# Altium footprint library Card_Edge1.PcbLib: 1 footprints
Each footprint in its own frame and in the unit in brackets; x right, y up, seen from the top. Pads: shape width x height; smd on the part's side, far side on the other; paste and mask are expansions set on the pad; w line width, h text height; cw(c..) or ccw(c..) is an arc to the next point about the centre after c.
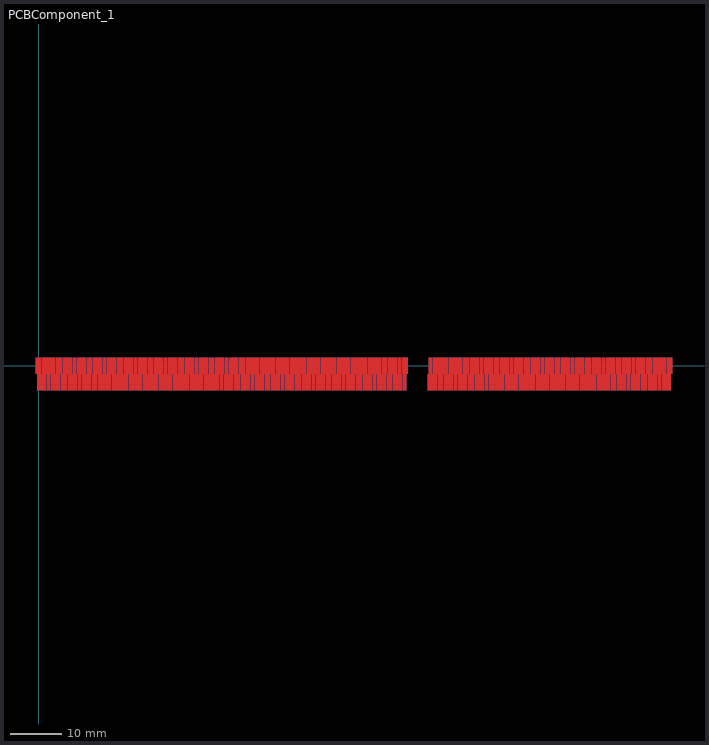
[diagram p0: the footprint, top view; thin cyan lines are the x and y axes]

## PCBComponent_1 [mil]
pads (242):
  round 1 smd mask+0: 1(0,0) 2(39.17,-129.92) 3(78.35,0) 4(117.52,-129.92) 5(156.69,0) 6(195.87,-129.92) 7(235.04,0) 8(274.21,-129.92) 9(313.39,0) 10(352.56,-129.92) 11(391.73,0) 12(430.91,-129.92) 13(470.08,0) 14(509.25,-129.92) 15(548.43,0) 16(587.6,-129.92) 17(626.77,0) 18(665.94,-129.92) 19(705.12,0) 20(744.29,-129.92) 21(783.46,0) 22(822.64,-129.92) 23(861.81,0) 24(900.98,-129.92) 25(940.16,0) 26(979.33,-129.92) 27(1018.5,0) 28(1057.68,-129.92) 29(1096.85,0) 30(1136.02,-129.92) 31(1175.2,0) 32(1214.37,-129.92) 33(1253.54,0) 34(1292.72,-129.92) 35(1331.89,0) 36(1371.06,-129.92) 37(1410.24,0) 38(1449.41,-129.92) 39(1488.58,0) 40(1527.76,-129.92) 41(1566.93,0) 42(1606.1,-129.92) 43(1645.28,0) 44(1684.45,-129.92) 45(1723.62,0) 46(1762.8,-129.92) 47(1801.97,0) 48(1841.14,-129.92) 49(1880.32,0) 50(1919.49,-129.92) 51(1958.66,0) 52(1997.83,-129.92) 53(2037.01,0) 54(2076.18,-129.92) 55(2115.35,0) 56(2154.53,-129.92) 57(2193.7,0) 58(2232.87,-129.92) 59(2272.05,0) 60(2311.22,-129.92) 61(2350.39,0) 62(2389.57,-129.92) 63(2428.74,0) 64(2467.91,-129.92) 65(2507.09,0) 66(2546.26,-129.92) 67(2585.43,0) 68(2624.61,-129.92) 69(2663.78,0) 70(2702.95,-129.92) 71(2742.13,0) 72(2781.3,-129.92) 73(2820.47,0) 74(3017.32,-129.92) 75(3056.5,0) 76(3095.67,-129.92) 77(3134.84,0) 78(3174.02,-129.92) 79(3213.19,0) 80(3252.36,-129.92) 81(3291.54,0) 82(3330.71,-129.92) 83(3369.88,0) 84(3409.06,-129.92) 85(3448.23,0) 86(3487.4,-129.92) 87(3526.57,0) 88(3565.75,-129.92) 89(3604.92,0) 90(3644.09,-129.92) 91(3683.27,0) 92(3722.44,-129.92) 93(3761.61,0) 94(3800.79,-129.92) 95(3839.96,0) 96(3879.13,-129.92) 97(3918.31,0) 98(3957.48,-129.92) 99(3996.65,0) 100(4035.83,-129.92) 101(4075,0) 102(4114.17,-129.92) 103(4153.35,0) 104(4192.52,-129.92) 105(4231.69,0) 106(4270.87,-129.92) 107(4310.04,0) 108(4349.21,-129.92) 109(4388.39,0) 110(4427.56,-129.92) 111(4466.73,0) 112(4505.91,-129.92) 113(4545.08,0) 114(4584.25,-129.92) 115(4623.43,0) 116(4662.6,-129.92) 117(4701.77,0) 118(4740.94,-129.92) 119(4780.12,0) 120(4819.29,-129.92) 121(4858.46,0)
  round 1 smd far side mask+0: 122(0,0) 123(39.17,-129.92) 124(78.35,0) 125(117.52,-129.92) 126(156.69,0) 127(195.87,-129.92) 128(235.04,0) 129(274.21,-129.92) 130(313.39,0) 131(352.56,-129.92) 132(391.73,0) 133(430.91,-129.92) 134(470.08,0) 135(509.25,-129.92) 136(548.43,0) 137(587.6,-129.92) 138(626.77,0) 139(665.94,-129.92) 140(705.12,0) 141(744.29,-129.92) 142(783.46,0) 143(822.64,-129.92) 144(861.81,0) 145(900.98,-129.92) 146(940.16,0) 147(979.33,-129.92) 148(1018.5,0) 149(1057.68,-129.92) 150(1096.85,0) 151(1136.02,-129.92) 152(1175.2,0) 153(1214.37,-129.92) 154(1253.54,0) 155(1292.72,-129.92) 156(1331.89,0) 157(1371.06,-129.92) 158(1410.24,0) 159(1449.41,-129.92) 160(1488.58,0) 161(1527.76,-129.92) 162(1566.93,0) 163(1606.1,-129.92) 164(1645.28,0) 165(1684.45,-129.92) 166(1723.62,0) 167(1762.8,-129.92) 168(1801.97,0) 169(1841.14,-129.92) 170(1880.32,0) 171(1919.49,-129.92) 172(1958.66,0) 173(1997.83,-129.92) 174(2037.01,0) 175(2076.18,-129.92) 176(2115.35,0) 177(2154.53,-129.92) 178(2193.7,0) 179(2232.87,-129.92) 180(2272.05,0) 181(2311.22,-129.92) 182(2350.39,0) 183(2389.57,-129.92) 184(2428.74,0) 185(2467.91,-129.92) 186(2507.09,0) 187(2546.26,-129.92) 188(2585.43,0) 189(2624.61,-129.92) 190(2663.78,0) 191(2702.95,-129.92) 192(2742.13,0) 193(2781.3,-129.92) 194(2820.47,0) 195(3017.32,-129.92) 196(3056.5,0) 198(3134.84,0) 200(3213.19,0) 202(3291.54,0) 204(3369.88,0) 206(3448.23,0) 208(3526.57,0) 210(3604.92,0) 212(3683.27,0) 214(3761.61,0) 216(3839.96,0) 218(3918.31,0) 220(3996.65,0) 222(4075,0) 224(4153.35,0) 226(4231.69,0) 228(4310.04,0) 230(4388.39,0) 232(4466.73,0) 234(4545.08,0) 236(4623.43,0) 238(4701.77,0) 240(4780.12,0) 242(4858.46,0) 257(3095.67,-129.92) 259(3174.02,-129.92) 261(3252.36,-129.92) 263(3330.71,-129.92) 265(3409.06,-129.92) 267(3487.4,-129.92) 269(3565.75,-129.92) 271(3644.09,-129.92) 273(3722.44,-129.92) 275(3800.79,-129.92) 277(3879.13,-129.92) 279(3957.48,-129.92) 281(4035.83,-129.92) 283(4114.17,-129.92) 285(4192.52,-129.92) 287(4270.87,-129.92) 289(4349.21,-129.92) 291(4427.56,-129.92) 293(4505.91,-129.92) 295(4584.25,-129.92) 297(4662.6,-129.92) 299(4740.94,-129.92) 301(4819.29,-129.92)
Top Layer:
  region: 99.8,62.01 99.8,-62.01 90.16,-62.01 90.16,-191.93 66.54,-191.93 66.54,-62.01 56.89,-62.01 56.89,62.01
  region: 178.15,62.01 178.15,-62.01 168.5,-62.01 168.5,-191.93 144.88,-191.93 144.88,-62.01 135.24,-62.01 135.24,62.01
  region: 256.5,62.01 256.5,-62.01 246.85,-62.01 246.85,-191.93 223.23,-191.93 223.23,-62.01 213.58,-62.01 213.58,62.01
  region: 334.84,62.01 334.84,-62.01 325.2,-62.01 325.2,-191.93 301.57,-191.93 301.57,-62.01 291.93,-62.01 291.93,62.01
  region: 413.19,62.01 413.19,-62.01 403.54,-62.01 403.54,-191.93 379.92,-191.93 379.92,-62.01 370.28,-62.01 370.28,62.01
  region: 491.54,62.01 491.54,-62.01 481.89,-62.01 481.89,-191.93 458.27,-191.93 458.27,-62.01 448.62,-62.01 448.62,62.01
  region: 569.88,62.01 569.88,-62.01 560.24,-62.01 560.24,-191.93 536.61,-191.93 536.61,-62.01 526.97,-62.01 526.97,62.01
  region: 648.23,62.01 648.23,-62.01 638.58,-62.01 638.58,-191.93 614.96,-191.93 614.96,-62.01 605.31,-62.01 605.31,62.01
  region: 726.57,62.01 726.57,-62.01 716.93,-62.01 716.93,-191.93 693.31,-191.93 693.31,-62.01 683.66,-62.01 683.66,62.01
  region: 804.92,62.01 804.92,-62.01 795.28,-62.01 795.28,-191.93 771.65,-191.93 771.65,-62.01 762.01,-62.01 762.01,62.01
  region: 883.27,62.01 883.27,-62.01 873.62,-62.01 873.62,-191.93 850,-191.93 850,-62.01 840.35,-62.01 840.35,62.01
  region: 961.61,62.01 961.61,-62.01 951.97,-62.01 951.97,-191.93 928.35,-191.93 928.35,-62.01 918.7,-62.01 918.7,62.01
  region: 1039.96,62.01 1039.96,-62.01 1030.31,-62.01 1030.31,-191.93 1006.69,-191.93 1006.69,-62.01 997.05,-62.01 997.05,62.01
  region: 1118.31,62.01 1118.31,-62.01 1108.66,-62.01 1108.66,-191.93 1085.04,-191.93 1085.04,-62.01 1075.39,-62.01 1075.39,62.01
  region: 1196.65,62.01 1196.65,-62.01 1187.01,-62.01 1187.01,-191.93 1163.39,-191.93 1163.39,-62.01 1153.74,-62.01 1153.74,62.01
  region: 1275,62.01 1275,-62.01 1265.35,-62.01 1265.35,-191.93 1241.73,-191.93 1241.73,-62.01 1232.09,-62.01 1232.09,62.01
  region: 1353.35,62.01 1353.35,-62.01 1343.7,-62.01 1343.7,-191.93 1320.08,-191.93 1320.08,-62.01 1310.43,-62.01 1310.43,62.01
  region: 1431.69,62.01 1431.69,-62.01 1422.05,-62.01 1422.05,-191.93 1398.43,-191.93 1398.43,-62.01 1388.78,-62.01 1388.78,62.01
  region: 1510.04,62.01 1510.04,-62.01 1500.39,-62.01 1500.39,-191.93 1476.77,-191.93 1476.77,-62.01 1467.13,-62.01 1467.13,62.01
  region: 1588.39,62.01 1588.39,-62.01 1578.74,-62.01 1578.74,-191.93 1555.12,-191.93 1555.12,-62.01 1545.47,-62.01 1545.47,62.01
  region: 1666.73,62.01 1666.73,-62.01 1657.09,-62.01 1657.09,-191.93 1633.46,-191.93 1633.46,-62.01 1623.82,-62.01 1623.82,62.01
  region: 1745.08,62.01 1745.08,-62.01 1735.43,-62.01 1735.43,-191.93 1711.81,-191.93 1711.81,-62.01 1702.17,-62.01 1702.17,62.01
  region: 1823.43,62.01 1823.43,-62.01 1813.78,-62.01 1813.78,-191.93 1790.16,-191.93 1790.16,-62.01 1780.51,-62.01 1780.51,62.01
  region: 1901.77,62.01 1901.77,-62.01 1892.13,-62.01 1892.13,-191.93 1868.5,-191.93 1868.5,-62.01 1858.86,-62.01 1858.86,62.01
  region: 1980.12,62.01 1980.12,-62.01 1970.47,-62.01 1970.47,-191.93 1946.85,-191.93 1946.85,-62.01 1937.2,-62.01 1937.2,62.01
  region: 2058.46,62.01 2058.46,-62.01 2048.82,-62.01 2048.82,-191.93 2025.2,-191.93 2025.2,-62.01 2015.55,-62.01 2015.55,62.01
  region: 2136.81,62.01 2136.81,-62.01 2127.17,-62.01 2127.17,-191.93 2103.54,-191.93 2103.54,-62.01 2093.9,-62.01 2093.9,62.01
  region: 2215.16,62.01 2215.16,-62.01 2205.51,-62.01 2205.51,-191.93 2181.89,-191.93 2181.89,-62.01 2172.24,-62.01 2172.24,62.01
  region: 2293.5,62.01 2293.5,-62.01 2283.86,-62.01 2283.86,-191.93 2260.24,-191.93 2260.24,-62.01 2250.59,-62.01 2250.59,62.01
  region: 2371.85,62.01 2371.85,-62.01 2362.2,-62.01 2362.2,-191.93 2338.58,-191.93 2338.58,-62.01 2328.94,-62.01 2328.94,62.01
  region: 2450.2,62.01 2450.2,-62.01 2440.55,-62.01 2440.55,-191.93 2416.93,-191.93 2416.93,-62.01 2407.28,-62.01 2407.28,62.01
  region: 2528.54,62.01 2528.54,-62.01 2518.9,-62.01 2518.9,-191.93 2495.28,-191.93 2495.28,-62.01 2485.63,-62.01 2485.63,62.01
  region: 2606.89,62.01 2606.89,-62.01 2597.24,-62.01 2597.24,-191.93 2573.62,-191.93 2573.62,-62.01 2563.98,-62.01 2563.98,62.01
  region: 2685.24,62.01 2685.24,-62.01 2675.59,-62.01 2675.59,-191.93 2651.97,-191.93 2651.97,-62.01 2642.32,-62.01 2642.32,62.01
  region: 2763.58,62.01 2763.58,-62.01 2753.94,-62.01 2753.94,-191.93 2730.32,-191.93 2730.32,-62.01 2720.67,-62.01 2720.67,62.01
  region: 96.06,-191.93 96.06,-67.91 105.71,-67.91 105.71,62.01 129.33,62.01 129.33,-67.91 138.98,-67.91 138.98,-191.93
  region: 174.41,-191.93 174.41,-67.91 184.06,-67.91 184.06,62.01 207.68,62.01 207.68,-67.91 217.32,-67.91 217.32,-191.93
  region: 252.76,-191.93 252.76,-67.91 262.4,-67.91 262.4,62.01 286.02,62.01 286.02,-67.91 295.67,-67.91 295.67,-191.93
  region: 331.1,-191.93 331.1,-67.91 340.75,-67.91 340.75,62.01 364.37,62.01 364.37,-67.91 374.02,-67.91 374.02,-191.93
  region: 409.45,-191.93 409.45,-67.91 419.09,-67.91 419.09,62.01 442.72,62.01 442.72,-67.91 452.36,-67.91 452.36,-191.93
  region: 487.8,-191.93 487.8,-67.91 497.44,-67.91 497.44,62.01 521.06,62.01 521.06,-67.91 530.71,-67.91 530.71,-191.93
  region: 566.14,-191.93 566.14,-67.91 575.79,-67.91 575.79,62.01 599.41,62.01 599.41,-67.91 609.06,-67.91 609.06,-191.93
  region: 644.49,-191.93 644.49,-67.91 654.13,-67.91 654.13,62.01 677.76,62.01 677.76,-67.91 687.4,-67.91 687.4,-191.93
  region: 722.83,-191.93 722.83,-67.91 732.48,-67.91 732.48,62.01 756.1,62.01 756.1,-67.91 765.75,-67.91 765.75,-191.93
  region: 801.18,-191.93 801.18,-67.91 810.83,-67.91 810.83,62.01 834.45,62.01 834.45,-67.91 844.09,-67.91 844.09,-191.93
  region: 879.53,-191.93 879.53,-67.91 889.17,-67.91 889.17,62.01 912.8,62.01 912.8,-67.91 922.44,-67.91 922.44,-191.93
  region: 957.87,-191.93 957.87,-67.91 967.52,-67.91 967.52,62.01 991.14,62.01 991.14,-67.91 1000.79,-67.91 1000.79,-191.93
  region: 1036.22,-191.93 1036.22,-67.91 1045.87,-67.91 1045.87,62.01 1069.49,62.01 1069.49,-67.91 1079.13,-67.91 1079.13,-191.93
  region: 1114.57,-191.93 1114.57,-67.91 1124.21,-67.91 1124.21,62.01 1147.83,62.01 1147.83,-67.91 1157.48,-67.91 1157.48,-191.93
  region: 1192.91,-191.93 1192.91,-67.91 1202.56,-67.91 1202.56,62.01 1226.18,62.01 1226.18,-67.91 1235.83,-67.91 1235.83,-191.93
  region: 1271.26,-191.93 1271.26,-67.91 1280.91,-67.91 1280.91,62.01 1304.53,62.01 1304.53,-67.91 1314.17,-67.91 1314.17,-191.93
  region: 1349.61,-191.93 1349.61,-67.91 1359.25,-67.91 1359.25,62.01 1382.87,62.01 1382.87,-67.91 1392.52,-67.91 1392.52,-191.93
  region: 1427.95,-191.93 1427.95,-67.91 1437.6,-67.91 1437.6,62.01 1461.22,62.01 1461.22,-67.91 1470.87,-67.91 1470.87,-191.93
  region: 1506.3,-191.93 1506.3,-67.91 1515.94,-67.91 1515.94,62.01 1539.57,62.01 1539.57,-67.91 1549.21,-67.91 1549.21,-191.93
  region: 1584.65,-191.93 1584.65,-67.91 1594.29,-67.91 1594.29,62.01 1617.91,62.01 1617.91,-67.91 1627.56,-67.91 1627.56,-191.93
  region: 1662.99,-191.93 1662.99,-67.91 1672.64,-67.91 1672.64,62.01 1696.26,62.01 1696.26,-67.91 1705.91,-67.91 1705.91,-191.93
  region: 1741.34,-191.93 1741.34,-67.91 1750.98,-67.91 1750.98,62.01 1774.61,62.01 1774.61,-67.91 1784.25,-67.91 1784.25,-191.93
  region: 1819.69,-191.93 1819.69,-67.91 1829.33,-67.91 1829.33,62.01 1852.95,62.01 1852.95,-67.91 1862.6,-67.91 1862.6,-191.93
  region: 1898.03,-191.93 1898.03,-67.91 1907.68,-67.91 1907.68,62.01 1931.3,62.01 1931.3,-67.91 1940.94,-67.91 1940.94,-191.93
  region: 1976.38,-191.93 1976.38,-67.91 1986.02,-67.91 1986.02,62.01 2009.65,62.01 2009.65,-67.91 2019.29,-67.91 2019.29,-191.93
  region: 2054.72,-191.93 2054.72,-67.91 2064.37,-67.91 2064.37,62.01 2087.99,62.01 2087.99,-67.91 2097.64,-67.91 2097.64,-191.93
  region: 2133.07,-191.93 2133.07,-67.91 2142.72,-67.91 2142.72,62.01 2166.34,62.01 2166.34,-67.91 2175.98,-67.91 2175.98,-191.93
  region: 2211.42,-191.93 2211.42,-67.91 2221.06,-67.91 2221.06,62.01 2244.68,62.01 2244.68,-67.91 2254.33,-67.91 2254.33,-191.93
  region: 2289.76,-191.93 2289.76,-67.91 2299.41,-67.91 2299.41,62.01 2323.03,62.01 2323.03,-67.91 2332.68,-67.91 2332.68,-191.93
  region: 2368.11,-191.93 2368.11,-67.91 2377.76,-67.91 2377.76,62.01 2401.38,62.01 2401.38,-67.91 2411.02,-67.91 2411.02,-191.93
  region: 2446.46,-191.93 2446.46,-67.91 2456.1,-67.91 2456.1,62.01 2479.72,62.01 2479.72,-67.91 2489.37,-67.91 2489.37,-191.93
  region: 2524.8,-191.93 2524.8,-67.91 2534.45,-67.91 2534.45,62.01 2558.07,62.01 2558.07,-67.91 2567.72,-67.91 2567.72,-191.93
  region: 2603.15,-191.93 2603.15,-67.91 2612.8,-67.91 2612.8,62.01 2636.42,62.01 2636.42,-67.91 2646.06,-67.91 2646.06,-191.93
  region: 2681.5,-191.93 2681.5,-67.91 2691.14,-67.91 2691.14,62.01 2714.76,62.01 2714.76,-67.91 2724.41,-67.91 2724.41,-191.93
  region: 3156.3,62.01 3156.3,-62.01 3146.65,-62.01 3146.65,-191.93 3123.03,-191.93 3123.03,-62.01 3113.39,-62.01 3113.39,62.01
  region: 3074.21,-191.93 3074.21,-67.91 3083.86,-67.91 3083.86,62.01 3107.48,62.01 3107.48,-67.91 3117.13,-67.91 3117.13,-191.93
  region: 3152.56,-191.93 3152.56,-67.91 3162.2,-67.91 3162.2,62.01 3185.83,62.01 3185.83,-67.91 3195.47,-67.91 3195.47,-191.93
  region: 3230.91,-191.93 3230.91,-67.91 3240.55,-67.91 3240.55,62.01 3264.17,62.01 3264.17,-67.91 3273.82,-67.91 3273.82,-191.93
  region: 3309.25,-191.93 3309.25,-67.91 3318.9,-67.91 3318.9,62.01 3342.52,62.01 3342.52,-67.91 3352.17,-67.91 3352.17,-191.93
  region: 3387.6,-191.93 3387.6,-67.91 3397.24,-67.91 3397.24,62.01 3420.87,62.01 3420.87,-67.91 3430.51,-67.91 3430.51,-191.93
  region: 3465.94,-191.93 3465.94,-67.91 3475.59,-67.91 3475.59,62.01 3499.21,62.01 3499.21,-67.91 3508.86,-67.91 3508.86,-191.93
  region: 3544.29,-191.93 3544.29,-67.91 3553.94,-67.91 3553.94,62.01 3577.56,62.01 3577.56,-67.91 3587.2,-67.91 3587.2,-191.93
  region: 3622.64,-191.93 3622.64,-67.91 3632.28,-67.91 3632.28,62.01 3655.91,62.01 3655.91,-67.91 3665.55,-67.91 3665.55,-191.93
  region: 3700.98,-191.93 3700.98,-67.91 3710.63,-67.91 3710.63,62.01 3734.25,62.01 3734.25,-67.91 3743.9,-67.91 3743.9,-191.93
  region: 3779.33,-191.93 3779.33,-67.91 3788.98,-67.91 3788.98,62.01 3812.6,62.01 3812.6,-67.91 3822.24,-67.91 3822.24,-191.93
  region: 3857.68,-191.93 3857.68,-67.91 3867.32,-67.91 3867.32,62.01 3890.94,62.01 3890.94,-67.91 3900.59,-67.91 3900.59,-191.93
  region: 3936.02,-191.93 3936.02,-67.91 3945.67,-67.91 3945.67,62.01 3969.29,62.01 3969.29,-67.91 3978.94,-67.91 3978.94,-191.93
  region: 4014.37,-191.93 4014.37,-67.91 4024.02,-67.91 4024.02,62.01 4047.64,62.01 4047.64,-67.91 4057.28,-67.91 4057.28,-191.93
  region: 4092.72,-191.93 4092.72,-67.91 4102.36,-67.91 4102.36,62.01 4125.98,62.01 4125.98,-67.91 4135.63,-67.91 4135.63,-191.93
  region: 4171.06,-191.93 4171.06,-67.91 4180.71,-67.91 4180.71,62.01 4204.33,62.01 4204.33,-67.91 4213.98,-67.91 4213.98,-191.93
  region: 4249.41,-191.93 4249.41,-67.91 4259.06,-67.91 4259.06,62.01 4282.68,62.01 4282.68,-67.91 4292.32,-67.91 4292.32,-191.93
  region: 4327.76,-191.93 4327.76,-67.91 4337.4,-67.91 4337.4,62.01 4361.02,62.01 4361.02,-67.91 4370.67,-67.91 4370.67,-191.93
  region: 4406.1,-191.93 4406.1,-67.91 4415.75,-67.91 4415.75,62.01 4439.37,62.01 4439.37,-67.91 4449.02,-67.91 4449.02,-191.93
  region: 4484.45,-191.93 4484.45,-67.91 4494.09,-67.91 4494.09,62.01 4517.72,62.01 4517.72,-67.91 4527.36,-67.91 4527.36,-191.93
  region: 4562.8,-191.93 4562.8,-67.91 4572.44,-67.91 4572.44,62.01 4596.06,62.01 4596.06,-67.91 4605.71,-67.91 4605.71,-191.93
  region: 4641.14,-191.93 4641.14,-67.91 4650.79,-67.91 4650.79,62.01 4674.41,62.01 4674.41,-67.91 4684.06,-67.91 4684.06,-191.93
  region: 4719.49,-191.93 4719.49,-67.91 4729.13,-67.91 4729.13,62.01 4752.76,62.01 4752.76,-67.91 4762.4,-67.91 4762.4,-191.93
  region: 4797.83,-191.93 4797.83,-67.91 4807.48,-67.91 4807.48,62.01 4831.1,62.01 4831.1,-67.91 4840.75,-67.91 4840.75,-191.93
  region: 3234.65,62.01 3234.65,-62.01 3225,-62.01 3225,-191.93 3201.38,-191.93 3201.38,-62.01 3191.73,-62.01 3191.73,62.01
  region: 3312.99,62.01 3312.99,-62.01 3303.35,-62.01 3303.35,-191.93 3279.72,-191.93 3279.72,-62.01 3270.08,-62.01 3270.08,62.01
  region: 3391.34,62.01 3391.34,-62.01 3381.69,-62.01 3381.69,-191.93 3358.07,-191.93 3358.07,-62.01 3348.43,-62.01 3348.43,62.01
  region: 3469.68,62.01 3469.68,-62.01 3460.04,-62.01 3460.04,-191.93 3436.42,-191.93 3436.42,-62.01 3426.77,-62.01 3426.77,62.01
  region: 3548.03,62.01 3548.03,-62.01 3538.39,-62.01 3538.39,-191.93 3514.76,-191.93 3514.76,-62.01 3505.12,-62.01 3505.12,62.01
  region: 3626.38,62.01 3626.38,-62.01 3616.73,-62.01 3616.73,-191.93 3593.11,-191.93 3593.11,-62.01 3583.46,-62.01 3583.46,62.01
  region: 3704.72,62.01 3704.72,-62.01 3695.08,-62.01 3695.08,-191.93 3671.46,-191.93 3671.46,-62.01 3661.81,-62.01 3661.81,62.01
  region: 3783.07,62.01 3783.07,-62.01 3773.43,-62.01 3773.43,-191.93 3749.8,-191.93 3749.8,-62.01 3740.16,-62.01 3740.16,62.01
  region: 3861.42,62.01 3861.42,-62.01 3851.77,-62.01 3851.77,-191.93 3828.15,-191.93 3828.15,-62.01 3818.5,-62.01 3818.5,62.01
  region: 3939.76,62.01 3939.76,-62.01 3930.12,-62.01 3930.12,-191.93 3906.5,-191.93 3906.5,-62.01 3896.85,-62.01 3896.85,62.01
  region: 4018.11,62.01 4018.11,-62.01 4008.46,-62.01 4008.46,-191.93 3984.84,-191.93 3984.84,-62.01 3975.2,-62.01 3975.2,62.01
  region: 4096.46,62.01 4096.46,-62.01 4086.81,-62.01 4086.81,-191.93 4063.19,-191.93 4063.19,-62.01 4053.54,-62.01 4053.54,62.01
  region: 4174.8,62.01 4174.8,-62.01 4165.16,-62.01 4165.16,-191.93 4141.54,-191.93 4141.54,-62.01 4131.89,-62.01 4131.89,62.01
  region: 4253.15,62.01 4253.15,-62.01 4243.5,-62.01 4243.5,-191.93 4219.88,-191.93 4219.88,-62.01 4210.24,-62.01 4210.24,62.01
  region: 4331.5,62.01 4331.5,-62.01 4321.85,-62.01 4321.85,-191.93 4298.23,-191.93 4298.23,-62.01 4288.58,-62.01 4288.58,62.01
  region: 4409.84,62.01 4409.84,-62.01 4400.2,-62.01 4400.2,-191.93 4376.57,-191.93 4376.57,-62.01 4366.93,-62.01 4366.93,62.01
  region: 4488.19,62.01 4488.19,-62.01 4478.54,-62.01 4478.54,-191.93 4454.92,-191.93 4454.92,-62.01 4445.28,-62.01 4445.28,62.01
  region: 4566.54,62.01 4566.54,-62.01 4556.89,-62.01 4556.89,-191.93 4533.27,-191.93 4533.27,-62.01 4523.62,-62.01 4523.62,62.01
  region: 4644.88,62.01 4644.88,-62.01 4635.24,-62.01 4635.24,-191.93 4611.61,-191.93 4611.61,-62.01 4601.97,-62.01 4601.97,62.01
  region: 4723.23,62.01 4723.23,-62.01 4713.58,-62.01 4713.58,-191.93 4689.96,-191.93 4689.96,-62.01 4680.31,-62.01 4680.31,62.01
  region: 4801.57,62.01 4801.57,-62.01 4791.93,-62.01 4791.93,-191.93 4768.31,-191.93 4768.31,-62.01 4758.66,-62.01 4758.66,62.01
  region: 4879.92,62.01 4879.92,-62.01 4870.28,-62.01 4870.28,-191.93 4846.65,-191.93 4846.65,-62.01 4837.01,-62.01 4837.01,62.01
  region: 17.72,-191.93 17.72,-67.91 27.36,-67.91 27.36,62.01 50.98,62.01 50.98,-67.91 60.63,-67.91 60.63,-191.93
  region: 2995.87,-191.93 2995.87,-67.91 3005.51,-67.91 3005.51,62.01 3029.13,62.01 3029.13,-67.91 3038.78,-67.91 3038.78,-191.93
  region: 3077.95,62.01 3077.95,-62.01 3068.31,-62.01 3068.31,-191.93 3044.68,-191.93 3044.68,-62.01 3035.04,-62.01 3035.04,62.01
  region: 2759.84,-191.93 2759.84,-67.91 2769.49,-67.91 2769.49,62.01 2793.11,62.01 2793.11,-67.91 2802.76,-67.91 2802.76,-191.93
  region: 2841.93,62.01 2841.93,-62.01 2832.28,-62.01 2832.28,-191.93 2808.66,-191.93 2808.66,-62.01 2799.02,-62.01 2799.02,62.01
  region: 21.46,62.01 21.46,-62.01 11.81,-62.01 11.81,-191.93 -11.81,-191.93 -11.81,-62.01 -21.46,-62.01 -21.46,62.01
Bottom Layer:
  region: 21.46,62.01 21.46,-62.01 11.81,-62.01 11.81,-191.93 -11.81,-191.93 -11.81,-62.01 -21.46,-62.01 -21.46,62.01
  region: 17.72,-191.93 17.72,-67.91 27.36,-67.91 27.36,62.01 50.98,62.01 50.98,-67.91 60.63,-67.91 60.63,-191.93
  region: 99.8,62.01 99.8,-62.01 90.16,-62.01 90.16,-191.93 66.54,-191.93 66.54,-62.01 56.89,-62.01 56.89,62.01
  region: 178.15,62.01 178.15,-62.01 168.5,-62.01 168.5,-191.93 144.88,-191.93 144.88,-62.01 135.24,-62.01 135.24,62.01
  region: 256.5,62.01 256.5,-62.01 246.85,-62.01 246.85,-191.93 223.23,-191.93 223.23,-62.01 213.58,-62.01 213.58,62.01
  region: 334.84,62.01 334.84,-62.01 325.2,-62.01 325.2,-191.93 301.57,-191.93 301.57,-62.01 291.93,-62.01 291.93,62.01
  region: 413.19,62.01 413.19,-62.01 403.54,-62.01 403.54,-191.93 379.92,-191.93 379.92,-62.01 370.28,-62.01 370.28,62.01
  region: 491.54,62.01 491.54,-62.01 481.89,-62.01 481.89,-191.93 458.27,-191.93 458.27,-62.01 448.62,-62.01 448.62,62.01
  region: 569.88,62.01 569.88,-62.01 560.24,-62.01 560.24,-191.93 536.61,-191.93 536.61,-62.01 526.97,-62.01 526.97,62.01
  region: 648.23,62.01 648.23,-62.01 638.58,-62.01 638.58,-191.93 614.96,-191.93 614.96,-62.01 605.31,-62.01 605.31,62.01
  region: 726.57,62.01 726.57,-62.01 716.93,-62.01 716.93,-191.93 693.31,-191.93 693.31,-62.01 683.66,-62.01 683.66,62.01
  region: 804.92,62.01 804.92,-62.01 795.28,-62.01 795.28,-191.93 771.65,-191.93 771.65,-62.01 762.01,-62.01 762.01,62.01
  region: 883.27,62.01 883.27,-62.01 873.62,-62.01 873.62,-191.93 850,-191.93 850,-62.01 840.35,-62.01 840.35,62.01
  region: 961.61,62.01 961.61,-62.01 951.97,-62.01 951.97,-191.93 928.35,-191.93 928.35,-62.01 918.7,-62.01 918.7,62.01
  region: 1039.96,62.01 1039.96,-62.01 1030.31,-62.01 1030.31,-191.93 1006.69,-191.93 1006.69,-62.01 997.05,-62.01 997.05,62.01
  region: 1118.31,62.01 1118.31,-62.01 1108.66,-62.01 1108.66,-191.93 1085.04,-191.93 1085.04,-62.01 1075.39,-62.01 1075.39,62.01
  region: 1196.65,62.01 1196.65,-62.01 1187.01,-62.01 1187.01,-191.93 1163.39,-191.93 1163.39,-62.01 1153.74,-62.01 1153.74,62.01
  region: 1275,62.01 1275,-62.01 1265.35,-62.01 1265.35,-191.93 1241.73,-191.93 1241.73,-62.01 1232.09,-62.01 1232.09,62.01
  region: 1353.35,62.01 1353.35,-62.01 1343.7,-62.01 1343.7,-191.93 1320.08,-191.93 1320.08,-62.01 1310.43,-62.01 1310.43,62.01
  region: 1431.69,62.01 1431.69,-62.01 1422.05,-62.01 1422.05,-191.93 1398.43,-191.93 1398.43,-62.01 1388.78,-62.01 1388.78,62.01
  region: 1510.04,62.01 1510.04,-62.01 1500.39,-62.01 1500.39,-191.93 1476.77,-191.93 1476.77,-62.01 1467.13,-62.01 1467.13,62.01
  region: 1588.39,62.01 1588.39,-62.01 1578.74,-62.01 1578.74,-191.93 1555.12,-191.93 1555.12,-62.01 1545.47,-62.01 1545.47,62.01
  region: 1666.73,62.01 1666.73,-62.01 1657.09,-62.01 1657.09,-191.93 1633.46,-191.93 1633.46,-62.01 1623.82,-62.01 1623.82,62.01
  region: 1745.08,62.01 1745.08,-62.01 1735.43,-62.01 1735.43,-191.93 1711.81,-191.93 1711.81,-62.01 1702.17,-62.01 1702.17,62.01
  region: 1823.43,62.01 1823.43,-62.01 1813.78,-62.01 1813.78,-191.93 1790.16,-191.93 1790.16,-62.01 1780.51,-62.01 1780.51,62.01
  region: 1901.77,62.01 1901.77,-62.01 1892.13,-62.01 1892.13,-191.93 1868.5,-191.93 1868.5,-62.01 1858.86,-62.01 1858.86,62.01
  region: 1980.12,62.01 1980.12,-62.01 1970.47,-62.01 1970.47,-191.93 1946.85,-191.93 1946.85,-62.01 1937.2,-62.01 1937.2,62.01
  region: 2058.46,62.01 2058.46,-62.01 2048.82,-62.01 2048.82,-191.93 2025.2,-191.93 2025.2,-62.01 2015.55,-62.01 2015.55,62.01
  region: 2136.81,62.01 2136.81,-62.01 2127.17,-62.01 2127.17,-191.93 2103.54,-191.93 2103.54,-62.01 2093.9,-62.01 2093.9,62.01
  region: 2215.16,62.01 2215.16,-62.01 2205.51,-62.01 2205.51,-191.93 2181.89,-191.93 2181.89,-62.01 2172.24,-62.01 2172.24,62.01
  region: 2293.5,62.01 2293.5,-62.01 2283.86,-62.01 2283.86,-191.93 2260.24,-191.93 2260.24,-62.01 2250.59,-62.01 2250.59,62.01
  region: 2371.85,62.01 2371.85,-62.01 2362.2,-62.01 2362.2,-191.93 2338.58,-191.93 2338.58,-62.01 2328.94,-62.01 2328.94,62.01
  region: 2450.2,62.01 2450.2,-62.01 2440.55,-62.01 2440.55,-191.93 2416.93,-191.93 2416.93,-62.01 2407.28,-62.01 2407.28,62.01
  region: 2528.54,62.01 2528.54,-62.01 2518.9,-62.01 2518.9,-191.93 2495.28,-191.93 2495.28,-62.01 2485.63,-62.01 2485.63,62.01
  region: 2606.89,62.01 2606.89,-62.01 2597.24,-62.01 2597.24,-191.93 2573.62,-191.93 2573.62,-62.01 2563.98,-62.01 2563.98,62.01
  region: 2685.24,62.01 2685.24,-62.01 2675.59,-62.01 2675.59,-191.93 2651.97,-191.93 2651.97,-62.01 2642.32,-62.01 2642.32,62.01
  region: 2763.58,62.01 2763.58,-62.01 2753.94,-62.01 2753.94,-191.93 2730.32,-191.93 2730.32,-62.01 2720.67,-62.01 2720.67,62.01
  region: 2841.93,62.01 2841.93,-62.01 2832.28,-62.01 2832.28,-191.93 2808.66,-191.93 2808.66,-62.01 2799.02,-62.01 2799.02,62.01
  region: 96.06,-191.93 96.06,-67.91 105.71,-67.91 105.71,62.01 129.33,62.01 129.33,-67.91 138.98,-67.91 138.98,-191.93
  region: 174.41,-191.93 174.41,-67.91 184.06,-67.91 184.06,62.01 207.68,62.01 207.68,-67.91 217.32,-67.91 217.32,-191.93
  region: 252.76,-191.93 252.76,-67.91 262.4,-67.91 262.4,62.01 286.02,62.01 286.02,-67.91 295.67,-67.91 295.67,-191.93
  region: 331.1,-191.93 331.1,-67.91 340.75,-67.91 340.75,62.01 364.37,62.01 364.37,-67.91 374.02,-67.91 374.02,-191.93
  region: 409.45,-191.93 409.45,-67.91 419.09,-67.91 419.09,62.01 442.72,62.01 442.72,-67.91 452.36,-67.91 452.36,-191.93
  region: 487.8,-191.93 487.8,-67.91 497.44,-67.91 497.44,62.01 521.06,62.01 521.06,-67.91 530.71,-67.91 530.71,-191.93
  region: 566.14,-191.93 566.14,-67.91 575.79,-67.91 575.79,62.01 599.41,62.01 599.41,-67.91 609.06,-67.91 609.06,-191.93
  region: 644.49,-191.93 644.49,-67.91 654.13,-67.91 654.13,62.01 677.76,62.01 677.76,-67.91 687.4,-67.91 687.4,-191.93
  region: 722.83,-191.93 722.83,-67.91 732.48,-67.91 732.48,62.01 756.1,62.01 756.1,-67.91 765.75,-67.91 765.75,-191.93
  region: 801.18,-191.93 801.18,-67.91 810.83,-67.91 810.83,62.01 834.45,62.01 834.45,-67.91 844.09,-67.91 844.09,-191.93
  region: 879.53,-191.93 879.53,-67.91 889.17,-67.91 889.17,62.01 912.8,62.01 912.8,-67.91 922.44,-67.91 922.44,-191.93
  region: 957.87,-191.93 957.87,-67.91 967.52,-67.91 967.52,62.01 991.14,62.01 991.14,-67.91 1000.79,-67.91 1000.79,-191.93
  region: 1036.22,-191.93 1036.22,-67.91 1045.87,-67.91 1045.87,62.01 1069.49,62.01 1069.49,-67.91 1079.13,-67.91 1079.13,-191.93
  region: 1114.57,-191.93 1114.57,-67.91 1124.21,-67.91 1124.21,62.01 1147.83,62.01 1147.83,-67.91 1157.48,-67.91 1157.48,-191.93
  region: 1192.91,-191.93 1192.91,-67.91 1202.56,-67.91 1202.56,62.01 1226.18,62.01 1226.18,-67.91 1235.83,-67.91 1235.83,-191.93
  region: 1271.26,-191.93 1271.26,-67.91 1280.91,-67.91 1280.91,62.01 1304.53,62.01 1304.53,-67.91 1314.17,-67.91 1314.17,-191.93
  region: 1349.61,-191.93 1349.61,-67.91 1359.25,-67.91 1359.25,62.01 1382.87,62.01 1382.87,-67.91 1392.52,-67.91 1392.52,-191.93
  region: 1427.95,-191.93 1427.95,-67.91 1437.6,-67.91 1437.6,62.01 1461.22,62.01 1461.22,-67.91 1470.87,-67.91 1470.87,-191.93
  region: 1506.3,-191.93 1506.3,-67.91 1515.94,-67.91 1515.94,62.01 1539.57,62.01 1539.57,-67.91 1549.21,-67.91 1549.21,-191.93
  region: 1584.65,-191.93 1584.65,-67.91 1594.29,-67.91 1594.29,62.01 1617.91,62.01 1617.91,-67.91 1627.56,-67.91 1627.56,-191.93
  region: 1662.99,-191.93 1662.99,-67.91 1672.64,-67.91 1672.64,62.01 1696.26,62.01 1696.26,-67.91 1705.91,-67.91 1705.91,-191.93
  region: 1741.34,-191.93 1741.34,-67.91 1750.98,-67.91 1750.98,62.01 1774.61,62.01 1774.61,-67.91 1784.25,-67.91 1784.25,-191.93
  region: 1819.69,-191.93 1819.69,-67.91 1829.33,-67.91 1829.33,62.01 1852.95,62.01 1852.95,-67.91 1862.6,-67.91 1862.6,-191.93
  region: 1898.03,-191.93 1898.03,-67.91 1907.68,-67.91 1907.68,62.01 1931.3,62.01 1931.3,-67.91 1940.94,-67.91 1940.94,-191.93
  region: 1976.38,-191.93 1976.38,-67.91 1986.02,-67.91 1986.02,62.01 2009.65,62.01 2009.65,-67.91 2019.29,-67.91 2019.29,-191.93
  region: 2054.72,-191.93 2054.72,-67.91 2064.37,-67.91 2064.37,62.01 2087.99,62.01 2087.99,-67.91 2097.64,-67.91 2097.64,-191.93
  region: 2133.07,-191.93 2133.07,-67.91 2142.72,-67.91 2142.72,62.01 2166.34,62.01 2166.34,-67.91 2175.98,-67.91 2175.98,-191.93
  region: 2211.42,-191.93 2211.42,-67.91 2221.06,-67.91 2221.06,62.01 2244.68,62.01 2244.68,-67.91 2254.33,-67.91 2254.33,-191.93
  region: 2289.76,-191.93 2289.76,-67.91 2299.41,-67.91 2299.41,62.01 2323.03,62.01 2323.03,-67.91 2332.68,-67.91 2332.68,-191.93
  region: 2368.11,-191.93 2368.11,-67.91 2377.76,-67.91 2377.76,62.01 2401.38,62.01 2401.38,-67.91 2411.02,-67.91 2411.02,-191.93
  region: 2446.46,-191.93 2446.46,-67.91 2456.1,-67.91 2456.1,62.01 2479.72,62.01 2479.72,-67.91 2489.37,-67.91 2489.37,-191.93
  region: 2524.8,-191.93 2524.8,-67.91 2534.45,-67.91 2534.45,62.01 2558.07,62.01 2558.07,-67.91 2567.72,-67.91 2567.72,-191.93
  region: 2603.15,-191.93 2603.15,-67.91 2612.8,-67.91 2612.8,62.01 2636.42,62.01 2636.42,-67.91 2646.06,-67.91 2646.06,-191.93
  region: 2681.5,-191.93 2681.5,-67.91 2691.14,-67.91 2691.14,62.01 2714.76,62.01 2714.76,-67.91 2724.41,-67.91 2724.41,-191.93
  region: 2759.84,-191.93 2759.84,-67.91 2769.49,-67.91 2769.49,62.01 2793.11,62.01 2793.11,-67.91 2802.76,-67.91 2802.76,-191.93
  region: 2995.87,-191.93 2995.87,-67.91 3005.51,-67.91 3005.51,62.01 3029.13,62.01 3029.13,-67.91 3038.78,-67.91 3038.78,-191.93
  region: 3077.95,62.01 3077.95,-62.01 3068.31,-62.01 3068.31,-191.93 3044.68,-191.93 3044.68,-62.01 3035.04,-62.01 3035.04,62.01
  region: 3074.21,-191.93 3074.21,-67.91 3083.86,-67.91 3083.86,62.01 3107.48,62.01 3107.48,-67.91 3117.13,-67.91 3117.13,-191.93
  region: 3152.56,-191.93 3152.56,-67.91 3162.2,-67.91 3162.2,62.01 3185.83,62.01 3185.83,-67.91 3195.47,-67.91 3195.47,-191.93
  region: 3230.91,-191.93 3230.91,-67.91 3240.55,-67.91 3240.55,62.01 3264.17,62.01 3264.17,-67.91 3273.82,-67.91 3273.82,-191.93
  region: 3309.25,-191.93 3309.25,-67.91 3318.9,-67.91 3318.9,62.01 3342.52,62.01 3342.52,-67.91 3352.17,-67.91 3352.17,-191.93
  region: 3387.6,-191.93 3387.6,-67.91 3397.24,-67.91 3397.24,62.01 3420.87,62.01 3420.87,-67.91 3430.51,-67.91 3430.51,-191.93
  region: 3465.94,-191.93 3465.94,-67.91 3475.59,-67.91 3475.59,62.01 3499.21,62.01 3499.21,-67.91 3508.86,-67.91 3508.86,-191.93
  region: 3544.29,-191.93 3544.29,-67.91 3553.94,-67.91 3553.94,62.01 3577.56,62.01 3577.56,-67.91 3587.2,-67.91 3587.2,-191.93
  region: 3622.64,-191.93 3622.64,-67.91 3632.28,-67.91 3632.28,62.01 3655.91,62.01 3655.91,-67.91 3665.55,-67.91 3665.55,-191.93
  region: 3700.98,-191.93 3700.98,-67.91 3710.63,-67.91 3710.63,62.01 3734.25,62.01 3734.25,-67.91 3743.9,-67.91 3743.9,-191.93
  region: 3779.33,-191.93 3779.33,-67.91 3788.98,-67.91 3788.98,62.01 3812.6,62.01 3812.6,-67.91 3822.24,-67.91 3822.24,-191.93
  region: 3857.68,-191.93 3857.68,-67.91 3867.32,-67.91 3867.32,62.01 3890.94,62.01 3890.94,-67.91 3900.59,-67.91 3900.59,-191.93
  region: 3936.02,-191.93 3936.02,-67.91 3945.67,-67.91 3945.67,62.01 3969.29,62.01 3969.29,-67.91 3978.94,-67.91 3978.94,-191.93
  region: 4014.37,-191.93 4014.37,-67.91 4024.02,-67.91 4024.02,62.01 4047.64,62.01 4047.64,-67.91 4057.28,-67.91 4057.28,-191.93
  region: 4092.72,-191.93 4092.72,-67.91 4102.36,-67.91 4102.36,62.01 4125.98,62.01 4125.98,-67.91 4135.63,-67.91 4135.63,-191.93
  region: 4171.06,-191.93 4171.06,-67.91 4180.71,-67.91 4180.71,62.01 4204.33,62.01 4204.33,-67.91 4213.98,-67.91 4213.98,-191.93
  region: 4249.41,-191.93 4249.41,-67.91 4259.06,-67.91 4259.06,62.01 4282.68,62.01 4282.68,-67.91 4292.32,-67.91 4292.32,-191.93
  region: 4327.76,-191.93 4327.76,-67.91 4337.4,-67.91 4337.4,62.01 4361.02,62.01 4361.02,-67.91 4370.67,-67.91 4370.67,-191.93
  region: 4406.1,-191.93 4406.1,-67.91 4415.75,-67.91 4415.75,62.01 4439.37,62.01 4439.37,-67.91 4449.02,-67.91 4449.02,-191.93
  region: 4484.45,-191.93 4484.45,-67.91 4494.09,-67.91 4494.09,62.01 4517.72,62.01 4517.72,-67.91 4527.36,-67.91 4527.36,-191.93
  region: 4562.8,-191.93 4562.8,-67.91 4572.44,-67.91 4572.44,62.01 4596.06,62.01 4596.06,-67.91 4605.71,-67.91 4605.71,-191.93
  region: 4641.14,-191.93 4641.14,-67.91 4650.79,-67.91 4650.79,62.01 4674.41,62.01 4674.41,-67.91 4684.06,-67.91 4684.06,-191.93
  region: 4719.49,-191.93 4719.49,-67.91 4729.13,-67.91 4729.13,62.01 4752.76,62.01 4752.76,-67.91 4762.4,-67.91 4762.4,-191.93
  region: 4797.83,-191.93 4797.83,-67.91 4807.48,-67.91 4807.48,62.01 4831.1,62.01 4831.1,-67.91 4840.75,-67.91 4840.75,-191.93
  region: 3156.3,62.01 3156.3,-62.01 3146.65,-62.01 3146.65,-191.93 3123.03,-191.93 3123.03,-62.01 3113.39,-62.01 3113.39,62.01
  region: 3234.65,62.01 3234.65,-62.01 3225,-62.01 3225,-191.93 3201.38,-191.93 3201.38,-62.01 3191.73,-62.01 3191.73,62.01
  region: 3312.99,62.01 3312.99,-62.01 3303.35,-62.01 3303.35,-191.93 3279.72,-191.93 3279.72,-62.01 3270.08,-62.01 3270.08,62.01
  region: 3391.34,62.01 3391.34,-62.01 3381.69,-62.01 3381.69,-191.93 3358.07,-191.93 3358.07,-62.01 3348.43,-62.01 3348.43,62.01
  region: 3469.68,62.01 3469.68,-62.01 3460.04,-62.01 3460.04,-191.93 3436.42,-191.93 3436.42,-62.01 3426.77,-62.01 3426.77,62.01
  region: 3548.03,62.01 3548.03,-62.01 3538.39,-62.01 3538.39,-191.93 3514.76,-191.93 3514.76,-62.01 3505.12,-62.01 3505.12,62.01
  region: 3626.38,62.01 3626.38,-62.01 3616.73,-62.01 3616.73,-191.93 3593.11,-191.93 3593.11,-62.01 3583.46,-62.01 3583.46,62.01
  region: 3704.72,62.01 3704.72,-62.01 3695.08,-62.01 3695.08,-191.93 3671.46,-191.93 3671.46,-62.01 3661.81,-62.01 3661.81,62.01
  region: 3783.07,62.01 3783.07,-62.01 3773.43,-62.01 3773.43,-191.93 3749.8,-191.93 3749.8,-62.01 3740.16,-62.01 3740.16,62.01
  region: 3861.42,62.01 3861.42,-62.01 3851.77,-62.01 3851.77,-191.93 3828.15,-191.93 3828.15,-62.01 3818.5,-62.01 3818.5,62.01
  region: 3939.76,62.01 3939.76,-62.01 3930.12,-62.01 3930.12,-191.93 3906.5,-191.93 3906.5,-62.01 3896.85,-62.01 3896.85,62.01
  region: 4018.11,62.01 4018.11,-62.01 4008.46,-62.01 4008.46,-191.93 3984.84,-191.93 3984.84,-62.01 3975.2,-62.01 3975.2,62.01
  region: 4096.46,62.01 4096.46,-62.01 4086.81,-62.01 4086.81,-191.93 4063.19,-191.93 4063.19,-62.01 4053.54,-62.01 4053.54,62.01
  region: 4174.8,62.01 4174.8,-62.01 4165.16,-62.01 4165.16,-191.93 4141.54,-191.93 4141.54,-62.01 4131.89,-62.01 4131.89,62.01
  region: 4253.15,62.01 4253.15,-62.01 4243.5,-62.01 4243.5,-191.93 4219.88,-191.93 4219.88,-62.01 4210.24,-62.01 4210.24,62.01
  region: 4331.5,62.01 4331.5,-62.01 4321.85,-62.01 4321.85,-191.93 4298.23,-191.93 4298.23,-62.01 4288.58,-62.01 4288.58,62.01
  region: 4409.84,62.01 4409.84,-62.01 4400.2,-62.01 4400.2,-191.93 4376.57,-191.93 4376.57,-62.01 4366.93,-62.01 4366.93,62.01
  region: 4488.19,62.01 4488.19,-62.01 4478.54,-62.01 4478.54,-191.93 4454.92,-191.93 4454.92,-62.01 4445.28,-62.01 4445.28,62.01
  region: 4566.54,62.01 4566.54,-62.01 4556.89,-62.01 4556.89,-191.93 4533.27,-191.93 4533.27,-62.01 4523.62,-62.01 4523.62,62.01
  region: 4644.88,62.01 4644.88,-62.01 4635.24,-62.01 4635.24,-191.93 4611.61,-191.93 4611.61,-62.01 4601.97,-62.01 4601.97,62.01
  region: 4723.23,62.01 4723.23,-62.01 4713.58,-62.01 4713.58,-191.93 4689.96,-191.93 4689.96,-62.01 4680.31,-62.01 4680.31,62.01
  region: 4801.57,62.01 4801.57,-62.01 4791.93,-62.01 4791.93,-191.93 4768.31,-191.93 4768.31,-62.01 4758.66,-62.01 4758.66,62.01
  region: 4879.92,62.01 4879.92,-62.01 4870.28,-62.01 4870.28,-191.93 4846.65,-191.93 4846.65,-62.01 4837.01,-62.01 4837.01,62.01